# Altium footprint library Test Point Footprints.PcbLib: 3 footprints
Each footprint in its own frame and in the unit in brackets; x right, y up, seen from the top. Pads: shape width x height; smd on the part's side, far side on the other; paste and mask are expansions set on the pad; w line width, h text height; cw(c..) or ccw(c..) is an arc to the next point about the centre after c.
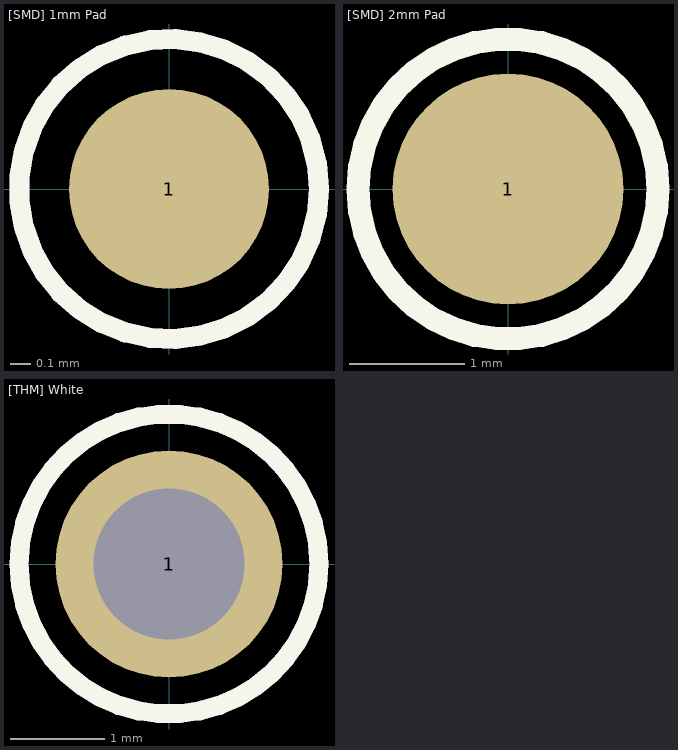
[diagram p0: the footprints below, top view; thin cyan lines are the x and y axes]

## [SMD] 1mm Pad [mm]
pads (1):
  round 1 smd: 1(0,0)
Top Overlay:
  circle w0.1: c0,0 r0.75
Mechanical 15:
  circle w0.1: c0,0 r0.75

## [SMD] 2mm Pad [mm]
pads (1):
  round 2 smd: 1(0,0)
Top Overlay:
  circle w0.2: c0,0 r1.3
Mechanical 15:
  circle w0.1: c0,0 r1.3

## [THM] White [mm] "5012"
pads (1):
  round 2.4 hole 1.6: 1(0,0)
Top Overlay:
  circle w0.2: c0,0 r1.585
Physical Outline:
  circle w0.2: c0,0 r1.585
3D body "5012.stp": height 8.12, standoff -3.17, extent -1.576,-1.587 1.576,1.587